# Altium schematic symbol library HP48GX_01_1.SCHLIB: 17 symbols
Pins are listed as number, name and electrical type; pins without a type are passive.

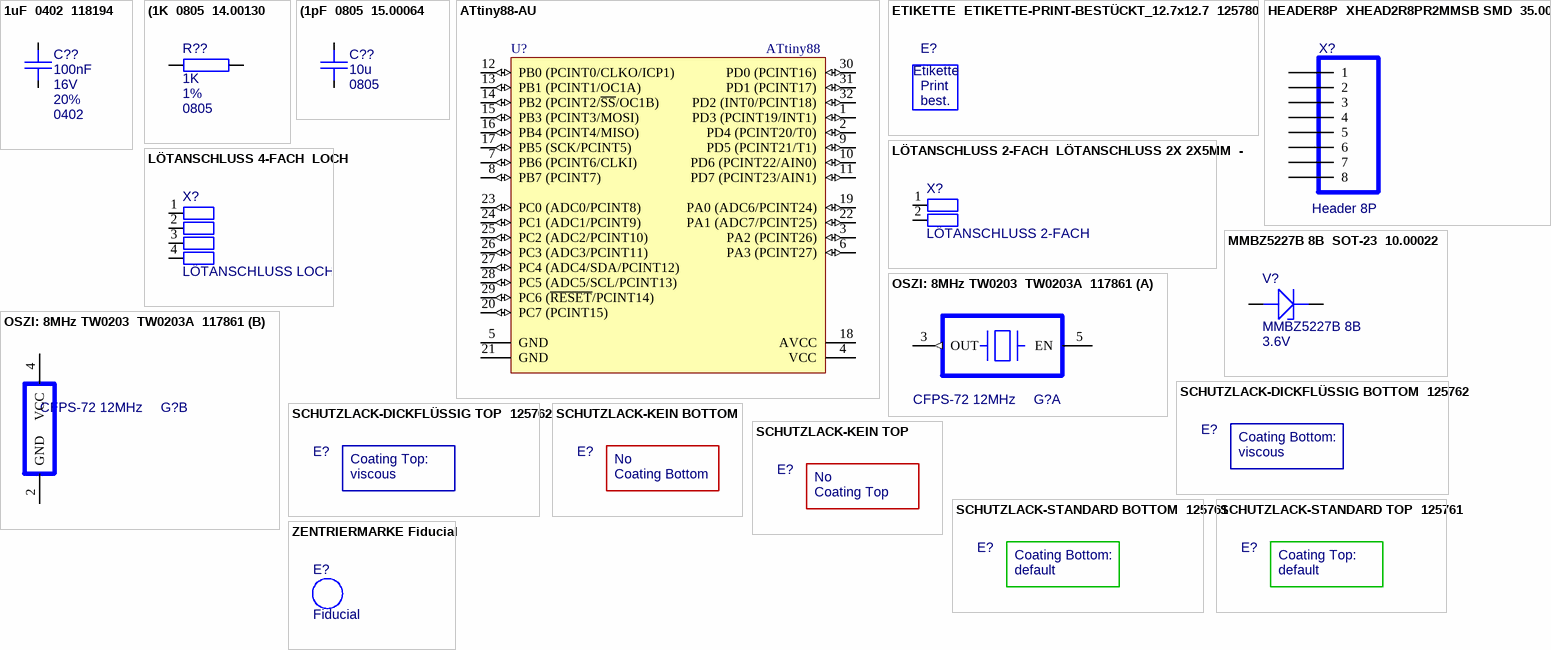
[diagram p0: symbols 1uF  0402  118194 to ZENTRIERMARKE Fiducial]

## 1uF  0402  118194
designator C??, comment Spannung: 16V  Toleranz: 20%  Footprint: 0402  (hidden comment: 100nF)
Kond/Chip-Kondensator; Material Gruppe: 07; Grundpreis: 0.0258; Lagerbestand: 876; Status Artikel: Normal; Lieferant: DIGI-KEY; Lieferant Best.Nr: PCC2257CT-ND; Bezeichnung 2: Chip-Kondensator; Datum Library Update: 26.08.2016; Rev: 1; Value: 100nF
footprint 0402C
pins: 1, 2

## (1K  0805  14.00130
designator R??, comment Toleranz: 1%  Footprint: 0805  (hidden comment: 1K)
Wid/Chip-Widerstand; Material Gruppe: 06; Lagerbestand: 5992; Status Artikel: Normal; Bezeichnung 1: 1%, 0.1W, 0805; Grundpreis: 0.0057; Lieferant: Rutronik; Lieferant Best.Nr: WRC32151; Datum Library Update: 26.08.2016; Bezeichnung 2: Chip-Widerstand; Rev: 1; Value: 1K
footprint 0805R
pins: 1, 2

## (1pF  0805  15.00064
designator C??, comment Footprint: 0805  (hidden comment: 10u)
Kond/Chip-Kondensator; Material Gruppe: 07; Lagerbestand: 2914; Status Artikel: Normal; Bezeichnung 1: 10u/6.3V, ±0.1uF, COG, 0805; Grundpreis: 0.0083; Lieferant: Rutronik; Lieferant Best.Nr: KKK18586; Toleranz: 0.1u; Datum Library Update: 26.08.2016; Bezeichnung 2: Chip-Kondensator; Rev: 1; Value: 10u
footprint 0805C
pins: 1, 2

## ATtiny88-AU
designator U?, comment ATtiny88
8-bit AVR Microcontroller, 1.8-5.5V, 8KB Flash, 64 Bytes EEPROM, 512 Bytes SRAM, 32-pin TQFP, Industrial Grade (-40°C to 85°C), Pb-Free; Published: 1-Apr-2010; DatasheetVersion: revC, Mar-2009; PackageVersion: revB, Oct-2001; PackageReference: 32A; Publisher: Altium Limited; PackageDescription: 32-Lead, 7x7x1.0 mm Body, 0.8mm Lead Pitch, Thin Profile Plastic Quad Flat Package (TQFP); Supplier 1: Digi-Key; Supplier Part Number 1: ATTINY88-AU-ND; Supplier 2: Farnell; Supplier Part Number 2: 1704570; Supplier 3: Mouser; Supplier Part Number 3: 556-ATTINY88-AU; Code_JEDEC: MS-026-ABA; ComponentLink1Description: Manufacturer Link; ComponentLink1URL: http://www.atmel.com/products/avr/default.asp?; ComponentLink2Description: ATtiny48/88 Datasheet; ComponentLink2URL: http://www.atmel.com/dyn/resources/prod_documents/doc8008.pdf; ComponentLink3Description: ATtiny48/88 Summary; ComponentLink3URL: http://www.atmel.com/dyn/resources/prod_documents/8008S.pdf; ComponentLink4Description: Atmel.com Home; ComponentLink4URL: http://www.atmel.com
footprint 32A_N (Thin QFP, 32-Leads, Body 7x7mm, Pitch 0.8mm, IPC Medium Density)
footprint 32A_L (Thin QFP, 32-Leads, Body 7x7mm, Pitch 0.8mm, IPC High Density)
footprint 32A_M (Thin QFP, 32-Leads, Body 7x7mm, Pitch 0.8mm, IPC Low Density)
pins: 1 PD3 (PCINT19/INT1) (io), 2 PD4 (PCINT20/T0) (io), 3 PA2 (PCINT26) (io), 4 VCC (power), 5 GND (power), 6 PA3 (PCINT27) (io), 7 PB6 (PCINT6/CLKI) (io), 8 PB7 (PCINT7) (io), 9 PD5 (PCINT21/T1) (io), 10 PD6 (PCINT22/AIN0) (io), 11 PD7 (PCINT23/AIN1) (io), 12 PB0 (PCINT0/CLKO/ICP1) (io), 13 PB1 (PCINT1/OC1A) (io), 14 PB2 (PCINT2/~{SS}/OC1B) (io), 15 PB3 (PCINT3/MOSI) (io), 16 PB4 (PCINT4/MISO) (io), 17 PB5 (SCK/PCINT5) (io), 18 AVCC (power), 19 PA0 (ADC6/PCINT24) (io), 20 PC7 (PCINT15) (io), 21 GND (power), 22 PA1 (ADC7/PCINT25) (io), 23 PC0 (ADC0/PCINT8) (io), 24 PC1 (ADC1/PCINT9) (io), 25 PC2 (ADC2/PCINT10) (io), 26 PC3 (ADC3/PCINT11) (io), 27 PC4 (ADC4/SDA/PCINT12) (io), 28 PC5 (ADC5/SCL/PCINT13) (io), 29 PC6 (~{RESET}/PCINT14) (io), 30 PD0 (PCINT16) (io), 31 PD1 (PCINT17) (io), 32 PD2 (INT0/PCINT18) (io)

## ETIKETTE  ETIKETTE-PRINT-BESTÜCKT_12.7x12.7  125780
designator E?  (value not drawn)
Zubehör/Etiketten-Printkleber; Artikelnummer IN-ERP: 125780
footprint ETIKETTE-PRINT-BESTÜCKT_12.7x12.7
footprint ETIKETTE-PRINT-BESTÜCKT_12.7x12.7_2/3
text: Etikette; Print; best.

## HEADER8P  XHEAD2R8PR2MMSB SMD  35.00419
designator X?, comment Header 8P
Stecker/Headerf Stehend SMD; Artikelnummer Damgaard: 35.00419; Artikelnummer IN-ERP: 103298; Material Gruppe: 15; Lagerbestand: 274; Status Artikel: Normal; Bezeichnung 1: Header 2x4Pf, R2.0; Bezeichnung 2: Print 2x4P, durchsteck., stehend, SMD mit Pos.Bolzen; Grundpreis: 0.49; Lieferant: Dietrich + Blum AG; Lieferant Best.Nr: 7450-08-1-00-10-ST; Footprint: XHEAD2R8PR2MMSB SMD; Datum Library Update: 07.04.2016; Rev: 1; Value: Header 8P
footprint XHEAD2R8PR2MMSB SMD
pins: 1, 1a, 2, 2a, 3, 3a, 4, 4a, 5, 5a, 6, 6a, 7, 7a, 8, 8a

## LÖTANSCHLUSS 2-FACH  LÖTANSCHLUSS 2X 2X5MM  -
designator X?, comment LÖTANSCHLUSS 2-FACH  (no BOM)
Stecker/Lötanschluss; Beschrieb: 2x 2x5mm; Artikelnummer Damgaard: -; Footprint: LÖTANSCHLUSS 2X 2X5MM; Rev: 1; Value: LÖTANSCHLUSS 2-FACH
footprint LÖTANSCHLUSS 2X 2X5MM
pins: 1, 2

## LÖTANSCHLUSS 4-FACH  LOCH
designator X?, comment LÖTANSCHLUSS LOCH  (no BOM)
AnschlussLoch; Artikelnummer Damgaard: -; Beschrieb: Loch; Footprint: LÖTANSCHLUSS 4x Loch; Rev: 1; Value: LÖTANSCHLUSS LOCH
footprint LÖTANSCHLUSS 4X 2X5MM
pins: 1, 2, 3, 4

## MMBZ5227B 8B  SOT-23  10.00022
designator V?, comment Zener-Spannung: 3.6V  (hidden comment: MMBZ5227B 8B)
Semidisc/Zener-Diode; Artikelnummer Damgaard: 10.00022; Artikelnummer IN-ERP: 100583; Material Gruppe: 04; Lagerbestand: 768; Status Artikel: Normal; Bezeichnung 1: MMBZ5227B 8B, SOT-23; Bezeichnung 2: Zener-Diode 3.6V, 250mW; Grundpreis: 0.0355; Lieferant: DIGI-KEY; Lieferant Best.Nr: 568-6327-6-ND; Footprint: SOT-23; Datum Library Update: 26.08.2016; ComponentLink1Description: Datenblatt; ComponentLink1URL: G:\Entwicklung\DATENBLAETTER\Artikelnummer COMLAB\100583; Rev: 1; Value: MMBZ5227B 8B
footprint SOT-23
pins: 1 a, 3 k

## OSZI: 8MHz TW0203  TW0203A  117861
designator G?, comment CFPS-72 12MHz
RF/OSZI; Artikelnummer IN-ERP: 117861; Material Gruppe: 09; Bezeichnung 1: TW0203A, SMD 3.2x5mm; Bezeichnung 2: Crystal-Oscill. 8MHz, ±30ppm@-20...+70°C, 3.3V; Lagerbestand: 45; Status Artikel: Normal; Footprint: TW0203A; Datum Library Update: 07.04.2016; ComponentLink1Description: Datenblatt; ComponentLink1URL: g:\Entwicklung\DATENBLAETTER\Artikelnummer COMLAB\117861\; Rev: 1; Value: CFPS-72 12MHz
footprint TW0203A (Footprint not found)
part A pins: 3 OUT (out), 5 EN
part B pins: 2 GND (power), 4 VCC (power)

## SCHUTZLACK-DICKFLÜSSIG BOTTOM  125762
designator E?  (value not drawn)
Zubehör/Schutzlack; Artikelnummer IN-ERP: 125762; Material Gruppe: 44; Rev: 1
footprint SCHUTZLACK-DICKFLÜSSIG: BOTTOM
text: Coating Bottom:; viscous

## SCHUTZLACK-DICKFLÜSSIG TOP  125762
designator E?  (value not drawn)
Zubehör/Schutzlack; Artikelnummer IN-ERP: 125762; Material Gruppe: 44; Rev: 1
footprint SCHUTZLACK-DICKFLÜSSIG: TOP
text: Coating Top:; viscous

## SCHUTZLACK-KEIN BOTTOM
designator E?  (value not drawn)  (no BOM)
Zubehör/Schutzlack; Rev: 1
footprint SCHUTZLACK-KEIN BOTTOM
text: No; Coating Bottom

## SCHUTZLACK-KEIN TOP
designator E?  (value not drawn)  (no BOM)
Zubehör/Schutzlack; Rev: 1
footprint SCHUTZLACK-KEIN TOP
text: No; Coating Top

## SCHUTZLACK-STANDARD BOTTOM  125761
designator E?  (value not drawn)
Zubehör/Schutzlack; Artikelnummer IN-ERP: 125761; Material Gruppe: 44; Rev: 1
footprint SCHUTZLACK-STANDARD: BOTTOM
text: Coating Bottom:; default

## SCHUTZLACK-STANDARD TOP  125761
designator E?  (value not drawn)
Zubehör/Schutzlack; Artikelnummer IN-ERP: 125761; Material Gruppe: 44; Rev: 1
footprint SCHUTZLACK-STANDARD: TOP
text: Coating Top:; default

## ZENTRIERMARKE Fiducial
designator E?, comment Fiducial
Zubehör/Zentriermarke, 2...8x diagonal auf jedem Print; Artikelnummer IN-ERP: Zentriermarke Fiducial; Rev: 1; Value: Fiducial
footprint ZENTRIER Fiducial